# Altium schematic symbol library XC6206P252MR-G.SchLib: 1 symbol
Pins are listed as number, name and electrical type; pins without a type are passive.

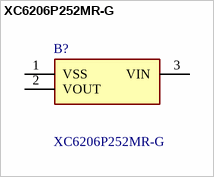
[diagram p0: symbol XC6206P252MR-G]

## XC6206P252MR-G
designator B?
LDO Voltage Regulators 1uA Low Quiescent 3 Terminal, Low ESR Cap. Compatible, Voltage Regulator; Manufacturer_Name: Torex; Geometry.Height: 1.3mm; Manufacturer_Part_Number: XC6206P252MR-G; Mouser Part Number: 865-XC6206P252MR-G; Mouser Price/Stock: https://www.mouser.co.uk/ProductDetail/Torex-Semiconductor/XC6206P252MR-G?qs=AsjdqWjXhJ%2FThrLMef8qfg%3D%3D; Arrow Part Number: *; Arrow Price/Stock: *; Datasheet Link: https://www.torexsemi.com/file/xc6206/XC6206.pdf
footprint SOT95P280X130-3N
pins: 1 VSS, 2 VOUT, 3 VIN